# Altium schematic symbol library 电感.SchLib: 2 symbols
Pins are listed as number, name and electrical type; pins without a type are passive.

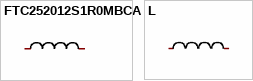
[diagram p0: symbols FTC252012S1R0MBCA to L]

## FTC252012S1R0MBCA
designator U??  (value not drawn)
Manufacturer: cjiang(长江微电); Add into BOM: yes; Value: 1uH; Tolerance: ±20%; Rated Current: 4A; Saturation Current (Isat): 5.6A; DC Resistance (DCR): 35mΩ; Symbol: FTC252012S1R0MBCA; Device: FTC252012S1R0MBCA; LCSC Part Name: 1uH ±20% 5.6A; Supplier Part: C5832370; Manufacturer Part: FTC252012S1R0MBCA; Supplier Footprint: SMD,2x2.5mm; JLCPCB Part Class: Extended Part; Datasheet: https://atta.szlcsc.com/upload/public/pdf/source/20230602/8FFEDA9C0247A92A0D4B67554BFE4091.pdf; Supplier: LCSC; Convert to PCB: yes; Type: 一体成型电感
footprint IND-SMD_L2.5-W2.0-VLS252012CX-150M
pins: 1, 2

## L
designator L??, comment YPRH1207-330M  (value not drawn)
Manufacturer: YJYCOIN(益嘉源); Name: 33uH; Add into BOM: yes; Value: 33uH; Tolerance: ±20%; Rated Current: 3A; DC Resistance (DCR): 65mΩ; Symbol: YPRH1207-330M; Device: YPRH1207-330M; LCSC Part Name: 33uH ±20% 3A 65mΩ; Supplier Part: C339951; Manufacturer Part: YPRH1207-330M; Supplier Footprint: SMD,12x12mm; JLCPCB Part Class: Extended Part; Datasheet: https://atta.szlcsc.com/upload/public/pdf/source/20200623/C339950_CB2CAFE108BC5DE837AA8F39C29DA454.pdf; Supplier: LCSC; Convert to PCB: yes
footprint IND-SMD_L12.0-W12.0
3D model SMD-PIND_L12.5-W12.5-H8.0
footprint SMD_L12_W12
footprint IND-SMD_L4.4-W4.2-A
footprint IND-SMD_L2.5-W2.0-VLS252012CX-150M
footprint L-SMD-0630 (一体化成型电感)
footprint IND-SMD_L4.1-W4.1_FEXU0420SR47MBH
footprint IND-SMD_L13.5-W12.6 (-; SMD; SMD,12.6x13.5mm; SMD,13.45x12.6x3.3mm; 1365; CD1313; IND-SMD_L13.5-W12.6; SMD,13.45x12.6x6.5mm; 1260; SMD,12.6x13.45mm; SMD,1250; SMD,1265; SMD,13.45x12.6x4.8mm; SMD,12.6X13.5mm)
footprint IND-SMD_L13.5-W12.6 (-; SMD; SMD,12.6x13.5mm; SMD,13.45x12.6x3.3mm; 1365; CD1313; IND-SMD_L13.5-W12.6; SMD,13.45x12.6x6.5mm; 1260; SMD,12.6x13.45mm; SMD,1250; SMD,1265; SMD,13.45x12.6x4.8mm; SMD,12.6X13.5mm)
pins: 1, 2